# Altium footprint library Logos.PcbLib: 14 footprints
Each footprint in its own frame and in the unit in brackets; x right, y up, seen from the top. Pads: shape width x height; smd on the part's side, far side on the other; paste and mask are expansions set on the pad; w line width, h text height; cw(c..) or ccw(c..) is an arc to the next point about the centre after c.
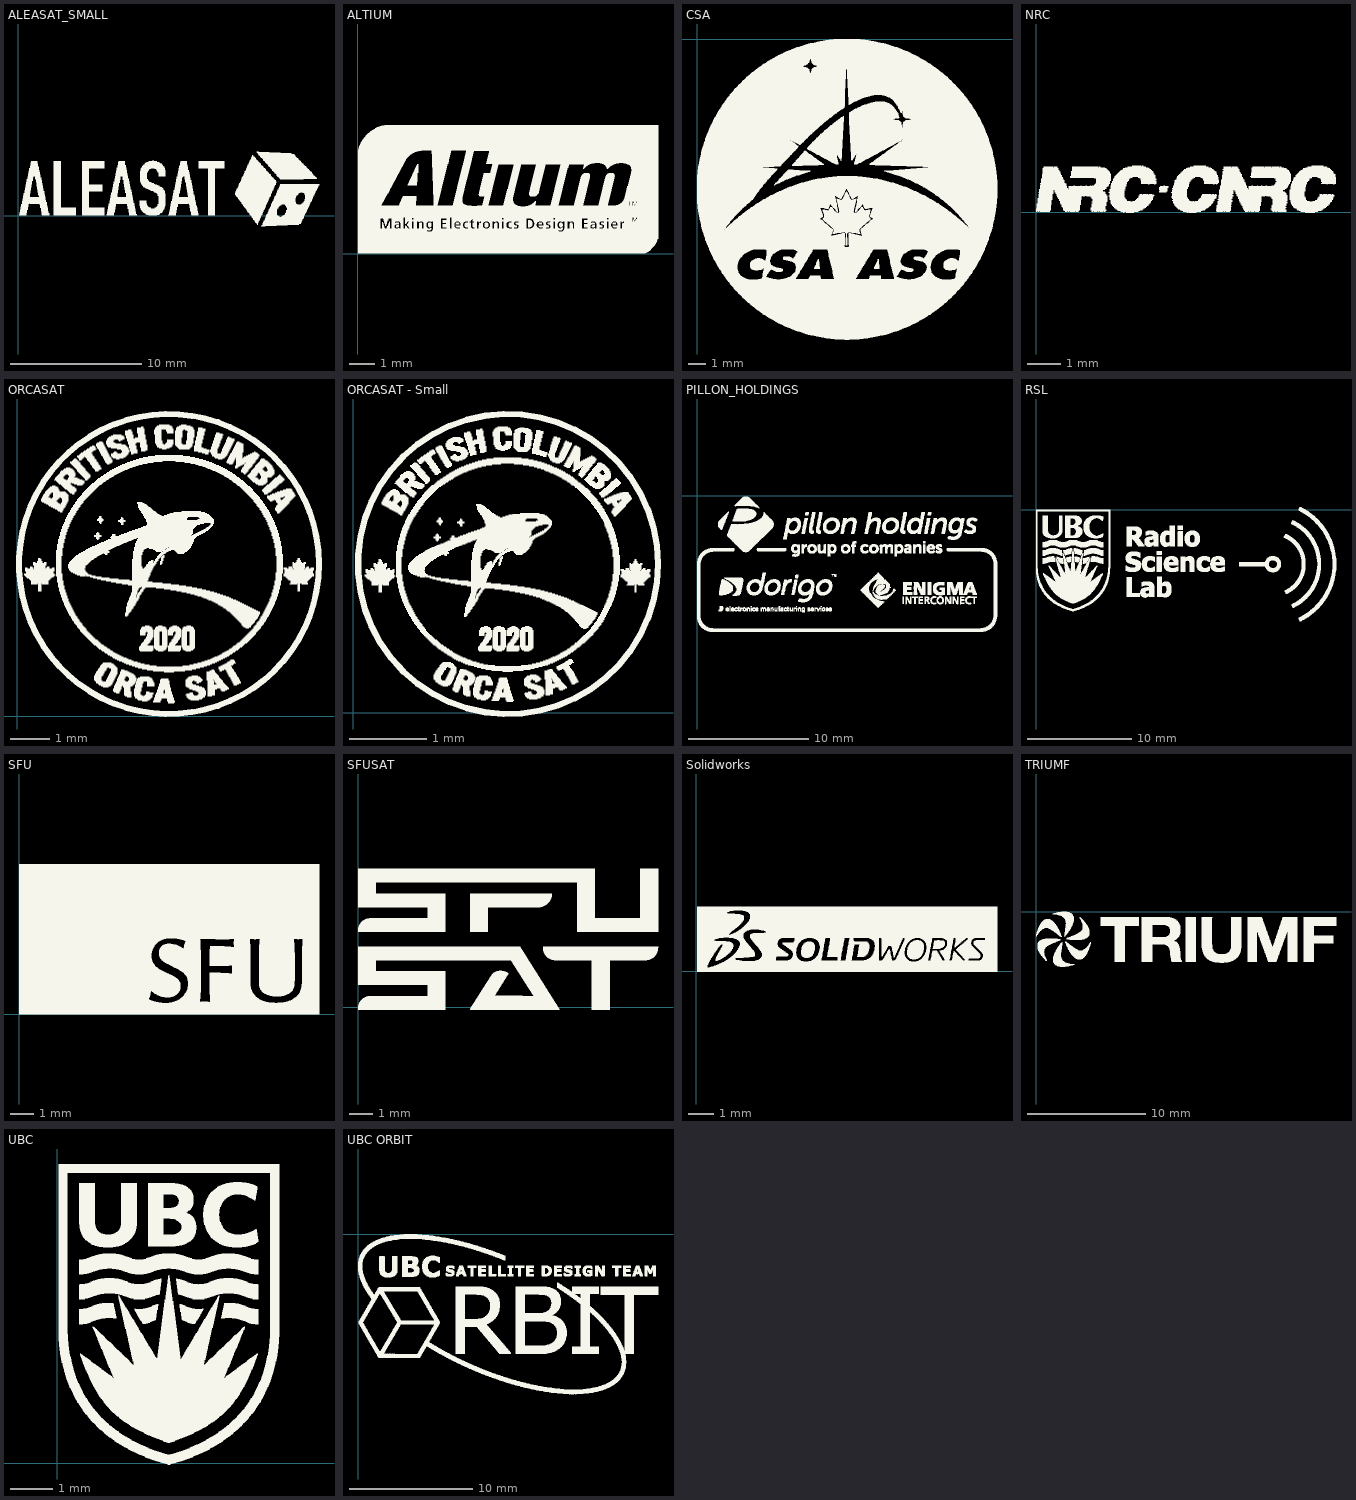
[diagram p0: the footprints below, top view; thin cyan lines are the x and y axes]

## ALEASAT_SMALL [mm]
Top Overlay:
  drawing of 10 lines, arcs and shapes, not listed

## ALTIUM [mm]
Top Overlay:
  drawing of 1840 lines, arcs and shapes, not listed

## CSA [mm] "CSA Logo"
Top Overlay:
  drawing of 2471 lines, arcs and shapes, not listed

## NRC [mm]
Top Overlay:
  drawing of 537 lines, arcs and shapes, not listed

## ORCASAT [mm]
Top Overlay:
  drawing of 1714 lines, arcs and shapes, not listed

## ORCASAT - Small [mm]
Top Overlay:
  drawing of 1714 lines, arcs and shapes, not listed

## PILLON_HOLDINGS [mm] "Pillon Holdings Logo"
Top Overlay:
  drawing of 5229 lines, arcs and shapes, not listed

## RSL [mm]
Top Overlay:
  drawing of 4545 lines, arcs and shapes, not listed

## SFU [mm]
Top Overlay:
  drawing of 1781 lines, arcs and shapes, not listed

## SFUSAT [mm]
Top Overlay:
  drawing of 6644 lines, arcs and shapes, not listed

## Solidworks [mm]
Top Overlay:
  drawing of 1627 lines, arcs and shapes, not listed

## TRIUMF [mm] "TRIUMF Logo"
Top Overlay:
  drawing of 1904 lines, arcs and shapes, not listed

## UBC [mm]
Top Overlay:
  drawing of 2792 lines, arcs and shapes, not listed

## UBC ORBIT [mm] "UBC Orbit Logo"
Top Overlay:
  drawing of 3793 lines, arcs and shapes, not listed